# Altium footprint library BasicEle.PcbLib: 25 footprints (part 1 of 2)
Each footprint in its own frame and in the unit in brackets; x right, y up, seen from the top. Pads: shape width x height; smd on the part's side, far side on the other; paste and mask are expansions set on the pad; w line width, h text height; cw(c..) or ccw(c..) is an arc to the next point about the centre after c.
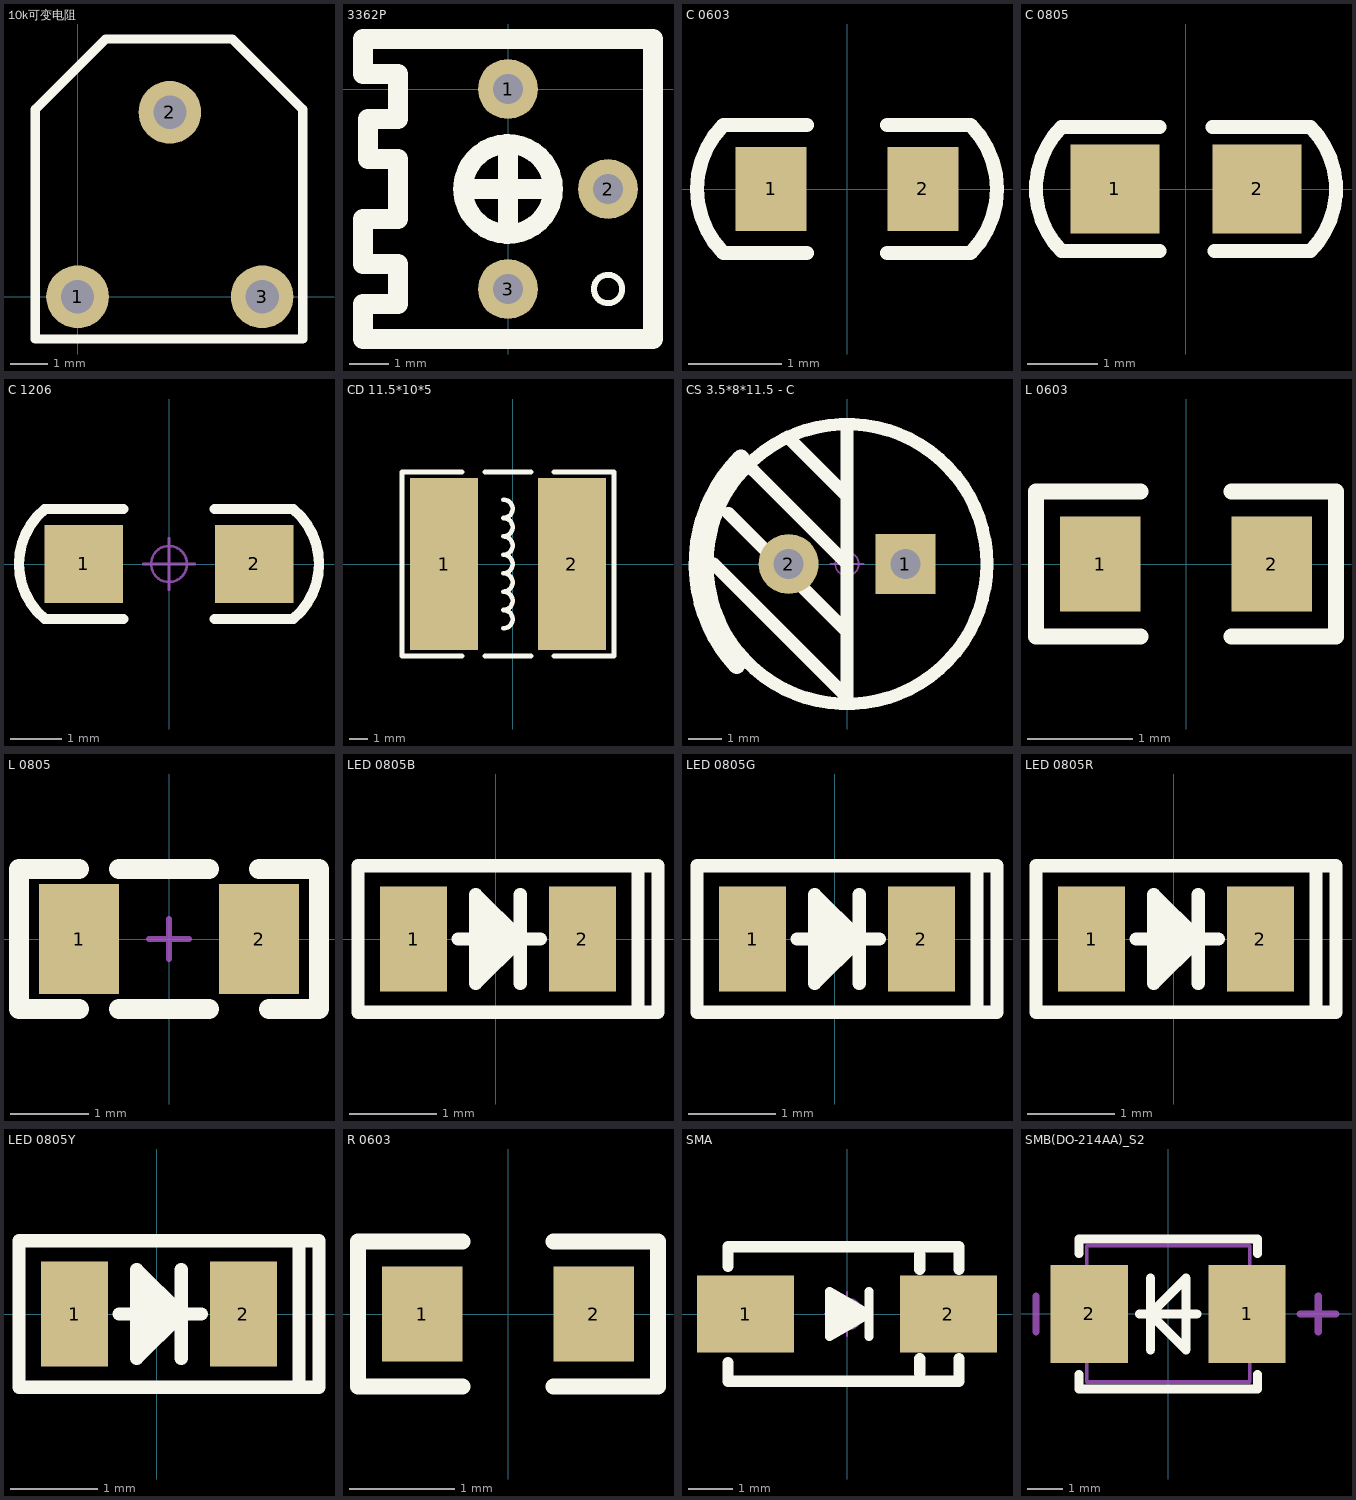
[diagram p0: the footprints below, top view; thin cyan lines are the x and y axes]

## 10k可变电阻 [mm] "红外模块专用"
pads (3):
  round 1.7 hole 0.9: 1(0,0) 2(2.5,5) 3(5,0)
Top Overlay:
  lines w0.254: -1.143,-1.143 -1.143,5.08 0.762,6.985 4.191,6.985 6.096,5.08 6.096,2.794 6.096,-1.143 -1.143,-1.143

## 3362P [mil] "十字拍电位器"
pads (3):
  round 60 hole 30: 1(0,0) 2(100,-100) 3(0,-200)
Top Overlay:
  circle w5.98: c100,-200 r14.14
  circle w19.68: c0,-100 r45
  lines w19.68: -45,-100 45,-100 ; 0,-145 0,-55 ; -145,-250 -145,-215 -110,-215 -110,-175 -145,-175 -145,-130 -110,-130 -110,-120 -110,-70 -140,-70 -140,-30 -110,-30 -110,15 -145,15 -145,50 -75,50 145,50 145,-100 145,-250 -80,-250 -145,-250
3D body: height 184.84, standoff -106.3, extent -129.91,-229.92 129.93,29.92

## C 0603 [mm]
pads (2):
  rect 0.762x0.9 smd: 1(-0.813,0) 2(0.813,0)
Top Overlay:
  lines w0.152: -0.432,-0.686 -1.321,-0.686 cw(c-0.635,0) -1.321,0.686 -0.432,0.686 ; 0.432,-0.686 1.321,-0.686 ccw(c0.635,0) 1.321,0.686 0.432,0.686
3D body: height 0.3, standoff 0, extent -0.8,-0.4 0.8,0.4

## C 0805 [mm]
pads (2):
  rrect0% 1.27x1.27 smd: 1(-1.016,0) 2(1.016,0)
Top Overlay:
  lines w0.2: -0.381,-0.889 -1.778,-0.889 cw(c-0.889,0) -1.778,0.889 -0.381,0.889 ; 0.381,0.889 1.778,0.889 cw(c0.889,0) 1.778,-0.889 0.406,-0.889
3D body: height 0.78, standoff 0, extent -1,-0.625 1,0.625

## C 1206 [mil]
pads (2):
  rect 60x60 smd: 1(-65,0) 2(65,0)
Top Overlay:
  lines w7.87: -35,-42 -95,-42 cw(c-60,0) -95,42 -35,42 ; 35,-42 95,-42 ccw(c60,0) 95,42 35,42
Mechanical 15:
  circle w1.97: c0,0 r13.78
  lines w1.97: -19.68,0 19.68,0 ; 0,-19.68 0,19.68
3D body: height 47.64, standoff -0.39, extent -62.99,-31.89 62.99,31.89

## CD 11.5*10*5 [mm]
pads (2):
  rect 3.75x9.5 smd: 1(-3.784,0) 2(3.276,0)
Top Overlay:
  lines w0.254: -6.104,-5.08 -6.104,5.08 ; -6.096,-5.08 -2.794,-5.08 ; -6.096,5.08 -2.794,5.08 ; -1.524,-5.08 1.016,-5.08 ; -1.524,5.08 1.016,5.08 ; -0.508,-3.556 ccw(c-0.508,-3.048) -0.508,-2.54 ccw(c-0.508,-2.032) -0.508,-1.524 ccw(c-0.508,-1.016) -0.508,-0.508 ccw(c-0.508,0) -0.508,0.508 ccw(c-0.508,1.016) -0.508,1.524 ccw(c-0.508,2.032) -0.508,2.54 ccw(c-0.508,3.048) -0.508,3.556 ; 2.286,-5.08 5.588,-5.08 ; 2.286,5.08 5.588,5.08 ; 5.596,-5.08 5.596,5.08
3D body: height 3, standoff 0, extent 5.207,-1.492 5.715,1.492
3D body: height 3, standoff 0, extent -6.223,-1.524 -5.715,1.524
3D body: height 5, standoff 0, extent -5.715,-4.826 5.207,4.826

## CS 3.5*8*11.5 - C [mm]
pads (2):
  rect 1.8x1.8 hole 0.9: 1(1.75,0)
  round 1.8 hole 0.9: 2(-1.75,0)
Top Overlay:
  circle w0.381: c0,0 r4.2
  lines w0.381: -4,0 0,-4 0,4 ; -3.556,1.524 0,-2.032 ; -2.807,2.807 0,0 ; -1.778,3.81 0,2.032
  lines w0.504: -3.307,-3.053 cw(c0,0) -3.183,3.183
Mechanical 15:
  circle w0.05: c0,0 r0.35
  lines w0.05: -0.5,0 0.5,0 ; 0,-0.5 0,0.5
3D body: height 11.52, standoff -3.48, extent -4,-4 4,4

## L 0603 [mil]
pads (2):
  rect 30x35.43 smd: 1(-32,0) 2(32,0)
Top Overlay:
  lines w6: -17,-27 -56,-27 -56,27 -17,27 ; 17,-27 56,-27 56,27 17,27
3D body: height 30.75, standoff -0.75, extent -31.49,-17.73 31.5,17.71

## L 0805 [mil]
pads (2):
  rect 40x55 smd: 1(-45,0) 2(45,0)
Top Overlay:
  lines w10: -45,-35 -75,-35 -75,35 -45,35 ; -25,-35 20,-35 ; -25,35 20,35 ; 45,35 75,35 75,-35 50,-35
Mechanical 15:
  lines w3: -10,0 10,0 ; 0,-10 0,10
3D body: height 35.43, standoff -0.11, extent -39.37,-23.62 39.37,23.62

## LED 0805B [mil]
pads (2):
  rect 30x47.24 smd: 1(-37,0) 2(39,0)
Top Overlay:
  lines w6: -17,0 20,0 1,0 ; -4,-15 -4,15 ; 1,-10 1,10 ; 6,-5 6,5 ; 11,-20 11,20 ; 64,-33 64,33 ; -62,-33 -62,33 73,33 73,-33 -62,-33 ; -9,-20 11,0 -9,20 -9,-20
3D body: height 26.31, standoff -0.16, extent -38.37,-25 40.37,24.29
3D body: height 31.69, standoff 12.01, extent -27.49,-25 31.49,24.29

## LED 0805G [mil]
pads (2):
  rect 30x47.24 smd: 1(-37,0) 2(39,0)
Top Overlay:
  lines w6: -17,0 20,0 1,0 ; -4,-15 -4,15 ; 1,-10 1,10 ; 6,-5 6,5 ; 11,-20 11,20 ; 64,-33 64,33 ; -62,-33 73,-33 73,33 -62,33 -62,-33 ; -9,-20 -9,20 11,0 -9,-20
3D body: height 26.31, standoff -0.16, extent -37.31,-24.23 41.43,25.06
3D body: height 31.69, standoff 12.01, extent -28.49,-24.29 30.49,25

## LED 0805R [mil]
pads (2):
  rect 30x47.24 smd: 1(-37,0) 2(39,0)
Top Overlay:
  lines w6: -17,0 20,0 1,0 ; -4,-15 -4,15 ; 1,-10 1,10 ; 6,-5 6,5 ; 11,-20 11,20 ; 64,-33 64,33 ; -62,-33 -62,33 73,33 73,-33 -62,-33 ; -9,-20 11,0 -9,20 -9,-20
3D body: height 31.69, standoff 12.01, extent -28,-24 30.98,25.29
3D body: height 26.31, standoff -0.16, extent -38.37,-24.29 40.37,25

## LED 0805Y [mil]
pads (2):
  rect 30x47.24 smd: 1(-37,0) 2(39,0)
Top Overlay:
  lines w6: -17,0 20,0 1,0 ; -4,-15 -4,15 ; 1,-10 1,10 ; 6,-5 6,5 ; 11,-20 11,20 ; 64,-33 64,33 ; -62,-33 -62,33 73,33 73,-33 -62,-33 ; -9,-20 11,0 -9,20 -9,-20
3D body: height 41.34, standoff -2.36, extent -39.36,-29.6 39.38,19.61

## R 0603 [mil]
pads (2):
  rect 30x35.43 smd: 1(-32,0) 2(32,0)
Top Overlay:
  lines w6: -17,-27 -56,-27 -56,27 -17,27 ; 17,-27 56,-27 56,27 17,27
3D body: height 11.89, standoff 0, extent -31.49,-15.75 31.5,15.75

## SMA [mm]
pads (2):
  rect 2.2x1.75 smd: 1(-2.3,0) 2(2.3,0)
Top Overlay:
  lines w0.203: 0.494,-0.508 0.494,0.508 ; -0.395,-0.508 -0.395,0.508 0.494,0 -0.395,-0.508
  lines w0.254: -2.7,-1.105 -2.7,-1.524 2.54,-1.524 2.54,-1.016 ; -2.7,1.08 -2.7,1.524 2.54,1.524 2.54,1.016 ; -0.33,0.305 0.305,0 -0.254,-0.305 -0.254,0.051 0.023,0 ; 1.651,-1.35 1.651,-1.016 ; 1.651,1.016 1.651,1.35
Mechanical 15:
  circle w0.05: c0,0 r0.35
  lines w0.05: -0.5,0 0.5,0 ; 0,-0.5 0,0.5
3D body: height 2.15, standoff 0.04, extent -2.528,-1.3 2.573,1.3

## SMB(DO-214AA)_S2 [mm]
pads (2):
  rect 2.159x2.743 smd: 1(2.21,0) 2(-2.21,0)
Top Overlay:
  lines w0.254: -2.5,-1.7 -2.5,-2.1 2.5,-2.1 2.5,-1.7 ; -2.5,1.7 -2.5,2.1 2.5,2.1 2.5,1.7 ; -0.8,0 0.8,0 ; -0.5,-1 -0.5,1 ; -0.5,0 0.5,1 0.5,-1 -0.5,0
Mechanical 13:
  lines w0.1: -2.285,-1.905 2.285,-1.905 2.285,1.905 -2.285,1.905 -2.285,-1.905
Mechanical 15:
  lines w0.203: -3.7,-0.5 -3.7,0.5 ; 3.7,0 4.7,0 ; 4.2,-0.5 4.2,0.5
3D body: height 2.45, standoff 0.03, extent -2.75,-1.95 2.75,1.95